# Altium schematic symbol library FemaleReceptacleSMD_100mil.SchLib: 4 symbols
Pins are listed as number, name and electrical type; pins without a type are passive.

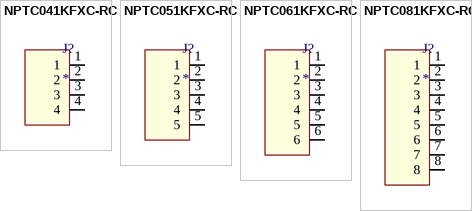
[diagram p0: symbols NPTC041KFXC-RC to NPTC081KFXC-RC]

## NPTC041KFXC-RC
designator J?
CONN HDR 4POS 0.1 TIN SMD; Manufacturer 1: Sullins; Manufacturer Part Number 1: NPTC041KFXC-RC; Number of Positions: 4; Connector Type: Header,Socket; Pitch: 0.1inch; Supplier 1: Digi-Key; Stock 1: 4448; Pricing 1: 1=0.67000, 10=0.58800, 100=0.50690, 500=0.41472, 1000=0.36864, 5000=0.33280 (USD); RoHS: Yes; Mount: Surface Mount; Color: Black; Contact Plating: Tin; Contact Material: Bronze; Housing Color: Black; Housing Material: Nylon; Package Quantity: 1000; Number of Rows: 1; Packaging: Bulk; Termination: Solder; Length: 10.2mm; Height: 7.1mm; Width: 2.5mm; Lead Free: Lead Free; ComponentLink1URL: https://datasheet.ciiva.com/745/npxcxx1kfxx-rc10487-d-745323.pdf?src-supplier=Digi-Key; ComponentLink1Description: https://datasheet.ciiva.com/745/npxcxx1kfxx-rc10487-d-745323.pdf?src-supplier=Digi-Key
footprint NPTC041KFXC-RC
pins: 1, 2, 3, 4

## NPTC051KFXC-RC
designator J?
CONN HDR 5POS 0.1 TIN SMD; Manufacturer 1: Sullins; Manufacturer Part Number 1: NPTC051KFXC-RC; Number of Positions: 5; Connector Type: Header,Socket; Pitch: 0.1inch; Supplier 1: Digi-Key; Stock 1: 15507; Pricing 1: 1=0.86000, 10=0.76000, 100=0.65540, 500=0.53622, 1000=0.47664, 5000=0.43030 (USD); RoHS: Yes; Mount: Surface Mount; Color: Black; Contact Plating: Tin; Contact Material: Bronze; Housing Color: Black; Housing Material: Nylon; Package Quantity: 1000; Number of Rows: 1; Packaging: Bulk; Termination: Solder; Length: 12.7mm; Height: 7.1mm; Width: 2.5mm; Lead Free: Lead Free; ComponentLink1URL: https://datasheet.ciiva.com/745/npxcxx1kfxx-rc10487-d-745324.pdf?src-supplier=Digi-Key; ComponentLink1Description: https://datasheet.ciiva.com/745/npxcxx1kfxx-rc10487-d-745324.pdf?src-supplier=Digi-Key
footprint NPTC051KFXC-RC
pins: 1, 2, 3, 4, 5

## NPTC061KFXC-RC
designator J?
CONN HDR 6POS 0.1 TIN SMD; Manufacturer 1: Sullins; Manufacturer Part Number 1: NPTC061KFXC-RC; Number of Positions: 6; Connector Type: Header,Socket; Pitch: 0.1inch; Supplier 1: Digi-Key; Stock 1: 2798; Pricing 1: 1=0.91000, 10=0.79600, 100=0.68710, 500=0.56214, 1000=0.49968, 5000=0.45110 (USD); RoHS: Yes; Mount: Surface Mount; Color: Black; Contact Plating: Tin; Contact Material: Bronze; Housing Color: Black; Housing Material: Nylon; Package Quantity: 1000; Number of Rows: 1; Packaging: Bulk; Termination: Solder; Length: 15.2mm; Height: 7.1mm; Width: 2.5mm; Lead Free: Lead Free; ComponentLink1URL: https://datasheet.ciiva.com/745/npxcxx1kfxx-rc10487-d-745325.pdf?src-supplier=Digi-Key; ComponentLink1Description: https://datasheet.ciiva.com/745/npxcxx1kfxx-rc10487-d-745325.pdf?src-supplier=Digi-Key
footprint NPTC061KFXC-RC
pins: 1, 2, 3, 4, 5, 6

## NPTC081KFXC-RC
designator J?
CONN HDR 8POS 0.1 TIN SMD; Manufacturer 1: Sullins; Manufacturer Part Number 1: NPTC081KFXC-RC; Number of Positions: 8; Connector Type: Header,Socket; Pitch: 0.1inch; Supplier 1: Digi-Key; Stock 1: 1274; Pricing 1: 1=1.20000, 10=1.05800, 100=0.91280, 500=0.74682, 1000=0.66384, 5000=0.59930 (USD); RoHS: Yes; Mount: Surface Mount; Color: Black; Contact Plating: Tin; Contact Material: Bronze; Housing Color: Black; Housing Material: Nylon; Package Quantity: 1000; Number of Rows: 1; Packaging: Bulk; Termination: Solder; Length: 20.3mm; Height: 7.1mm; Width: 2.5mm; Lead Free: Lead Free; ComponentLink1URL: https://datasheet.ciiva.com/745/npxcxx1kfxx-rc10487-d-745327.pdf?src-supplier=Digi-Key; ComponentLink1Description: https://datasheet.ciiva.com/745/npxcxx1kfxx-rc10487-d-745327.pdf?src-supplier=Digi-Key
footprint NPTC081KFXC-RC
pins: 1, 2, 3, 4, 5, 6, 7, 8